# Altium schematic symbol library Mechanical.SchLib: 11 symbols
Pins are listed as number, name and electrical type; pins without a type are passive.

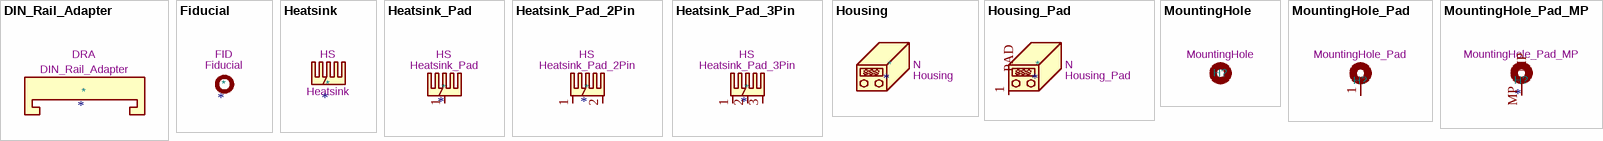
[diagram p0: symbols DIN_Rail_Adapter to MountingHole_Pad_MP]

## DIN_Rail_Adapter
designator *  value DIN_Rail_Adapter  Reference: DRA
DIN Rail adapter universal, mounting holes without connection; ki_keywords: Mounting holes, DIN rail adapter; ki_fp_filters: DINRailAdapter?3xM3* DINRailAdapter?2xM3*; Datasheet: ~; Description_: DIN Rail adapter universal, mounting holes without connection

## Fiducial
designator *  value Fiducial  Reference: FID
Fiducial Marker; ki_fp_filters: Fiducial*; Datasheet: ~; Description_: Fiducial Marker; ki_keywords: fiducial marker

## Heatsink
designator *  value Heatsink  Reference: HS
Heatsink; ki_keywords: thermal heat temperature; ki_fp_filters: Heatsink_*; Datasheet: ~; Description_: Heatsink

## Heatsink_Pad
designator *  value Heatsink_Pad  Reference: HS
Heatsink with electrical connection, 1 pin; ki_keywords: thermal heat temperature; ki_fp_filters: Heatsink_*; Datasheet: ~; Description_: Heatsink with electrical connection, 1 pin
pins: 1

## Heatsink_Pad_2Pin
designator *  value Heatsink_Pad_2Pin  Reference: HS
Heatsink with electrical connection, 2 pin; ki_keywords: thermal heat temperature; ki_fp_filters: Heatsink_*; Datasheet: ~; Description_: Heatsink with electrical connection, 2 pin
pins: 1, 2

## Heatsink_Pad_3Pin
designator *  value Heatsink_Pad_3Pin  Reference: HS
Heatsink with electrical connection, 3 pin; ki_keywords: thermal heat temperature; ki_fp_filters: Heatsink_*; Datasheet: ~; Description_: Heatsink with electrical connection, 3 pin
pins: 1, 2, 3

## Housing
designator *  value Housing  Reference: N
Housing; ki_keywords: housing enclosure; ki_fp_filters: Enclosure* Housing*; Datasheet: ~; Description_: Housing

## Housing_Pad
designator *  value Housing_Pad  Reference: N
Housing with connection pin; ki_keywords: housing enclosure shield; Datasheet: ~; Description_: Housing with connection pin
pins: 1 PAD

## MountingHole
designator H?  value MountingHole  (hidden comment: *)
Mounting Hole without connection; ki_fp_filters: MountingHole*; Reference: H; Datasheet: ~; Description_: Mounting Hole without connection; ki_keywords: mounting hole
footprint MountingHole_3.2mm_M3
footprint MountingHole_3mm_Pad
footprint MountingHole_3.2mm_M3_Pad_Via
footprint MountingHole_5.3mm_M5
footprint MountingHole_5mm_Pad
footprint MountingHole_5.3mm_M5_Pad_Via

## MountingHole_Pad
designator H?  value MountingHole_Pad  (hidden comment: *)
Mounting Hole with connection; ki_fp_filters: MountingHole*Pad*; Reference: H; Datasheet: ~; Description_: Mounting Hole with connection; ki_keywords: mounting hole
pins: 1

## MountingHole_Pad_MP
designator H?  value MountingHole_Pad_MP
Mounting Hole with connection as pad named MP; ki_fp_filters: MountingHole*Pad*; Reference: H; Datasheet: ~; Description_: Mounting Hole with connection as pad named MP; ki_keywords: mounting hole
pins: MP